# EAGLE library part B7P-VH (library con-jst-vh)
JST VH Series header 3.96mm pitch disconnectable crimp style connectors, vertical (side entry type), 7 pins
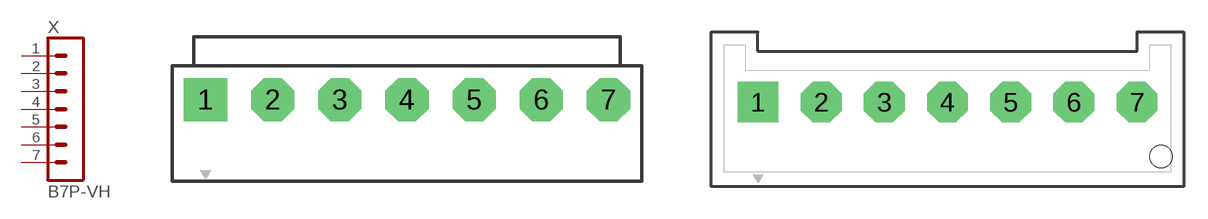
[diagram p1: symbol with the pads of B7P-VH; footprints B7P-VH, B7P-VH-FB-B]

Designator prefix X

## B7P-VH  [B7P-VH]
1  1  pas
2  2  pas
3  3  pas
4  4  pas
5  5  pas
6  6  pas
7  7  pas

## B7P-VH-B  [B7P-VH]
Pads as for B7P-VH

## B7P-VH-FB-B  [B7P-VH-FB-B]
Pads as for B7P-VH

## Footprint B7P-VH (pad centres in mm)
JST VH Series header 3.96mm pitch disconnectable crimp style connectors, vertical (top entry type), 7 pins
drill 1.7 pad 2.54 square: 1 -11.88,0
drill 1.7 pad 2.54 octagon: 2 -7.92,0; 3 -3.96,0; 4 0,0; 5 3.96,0; 6 7.92,0; 7 11.88,0

## Footprint B7P-VH-FB-B (pad centres in mm)
JST VH Series header 3.96mm pitch disconnectable crimp style connectors, vertical (top entry type), 7 pins
drill 1.7 pad 2.54 square: 1 -11.88,0
drill 1.7 pad 2.54 octagon: 2 -7.92,0; 3 -3.96,0; 4 0,0; 5 3.96,0; 6 7.92,0; 7 11.88,0
hole 1.4 at 13.38,-3.4